# Altium schematic symbol library BJT-NPN.SchLib: 1 symbol
Pins are listed as number, name and electrical type; pins without a type are passive.

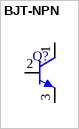
[diagram p0: symbol BJT-NPN]

## BJT-NPN
designator Q?
pins: 1 C, 2 B, 3 E